# Altium footprint library FUDs_and_Other_Footprints.PcbLib: 1 footprints
Each footprint in its own frame and in the unit in brackets; x right, y up, seen from the top. Pads: shape width x height; smd on the part's side, far side on the other; paste and mask are expansions set on the pad; w line width, h text height; cw(c..) or ccw(c..) is an arc to the next point about the centre after c.
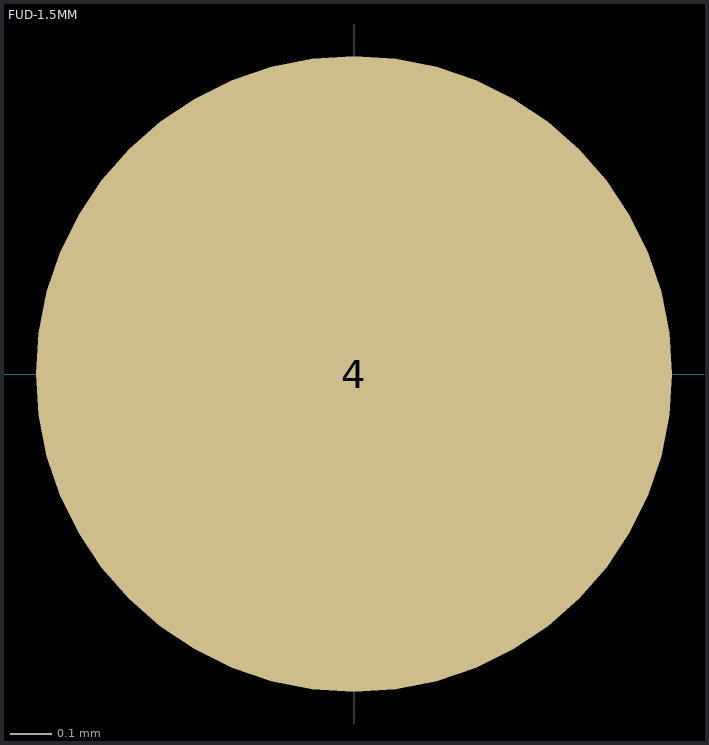
[diagram p0: the footprint, top view; thin cyan lines are the x and y axes]

## FUD-1.5MM [mil] "Fiducial, 1mm Diameter"
pads (1):
  round 60 smd paste-99999 mask-99999: 4(0,0)
Top Solder:
  circle w40: c0,0 r20